# Altium integrated library TI Data Converters Analog to Digital Converter.IntLib: 2197 symbols (part 37 of 168)
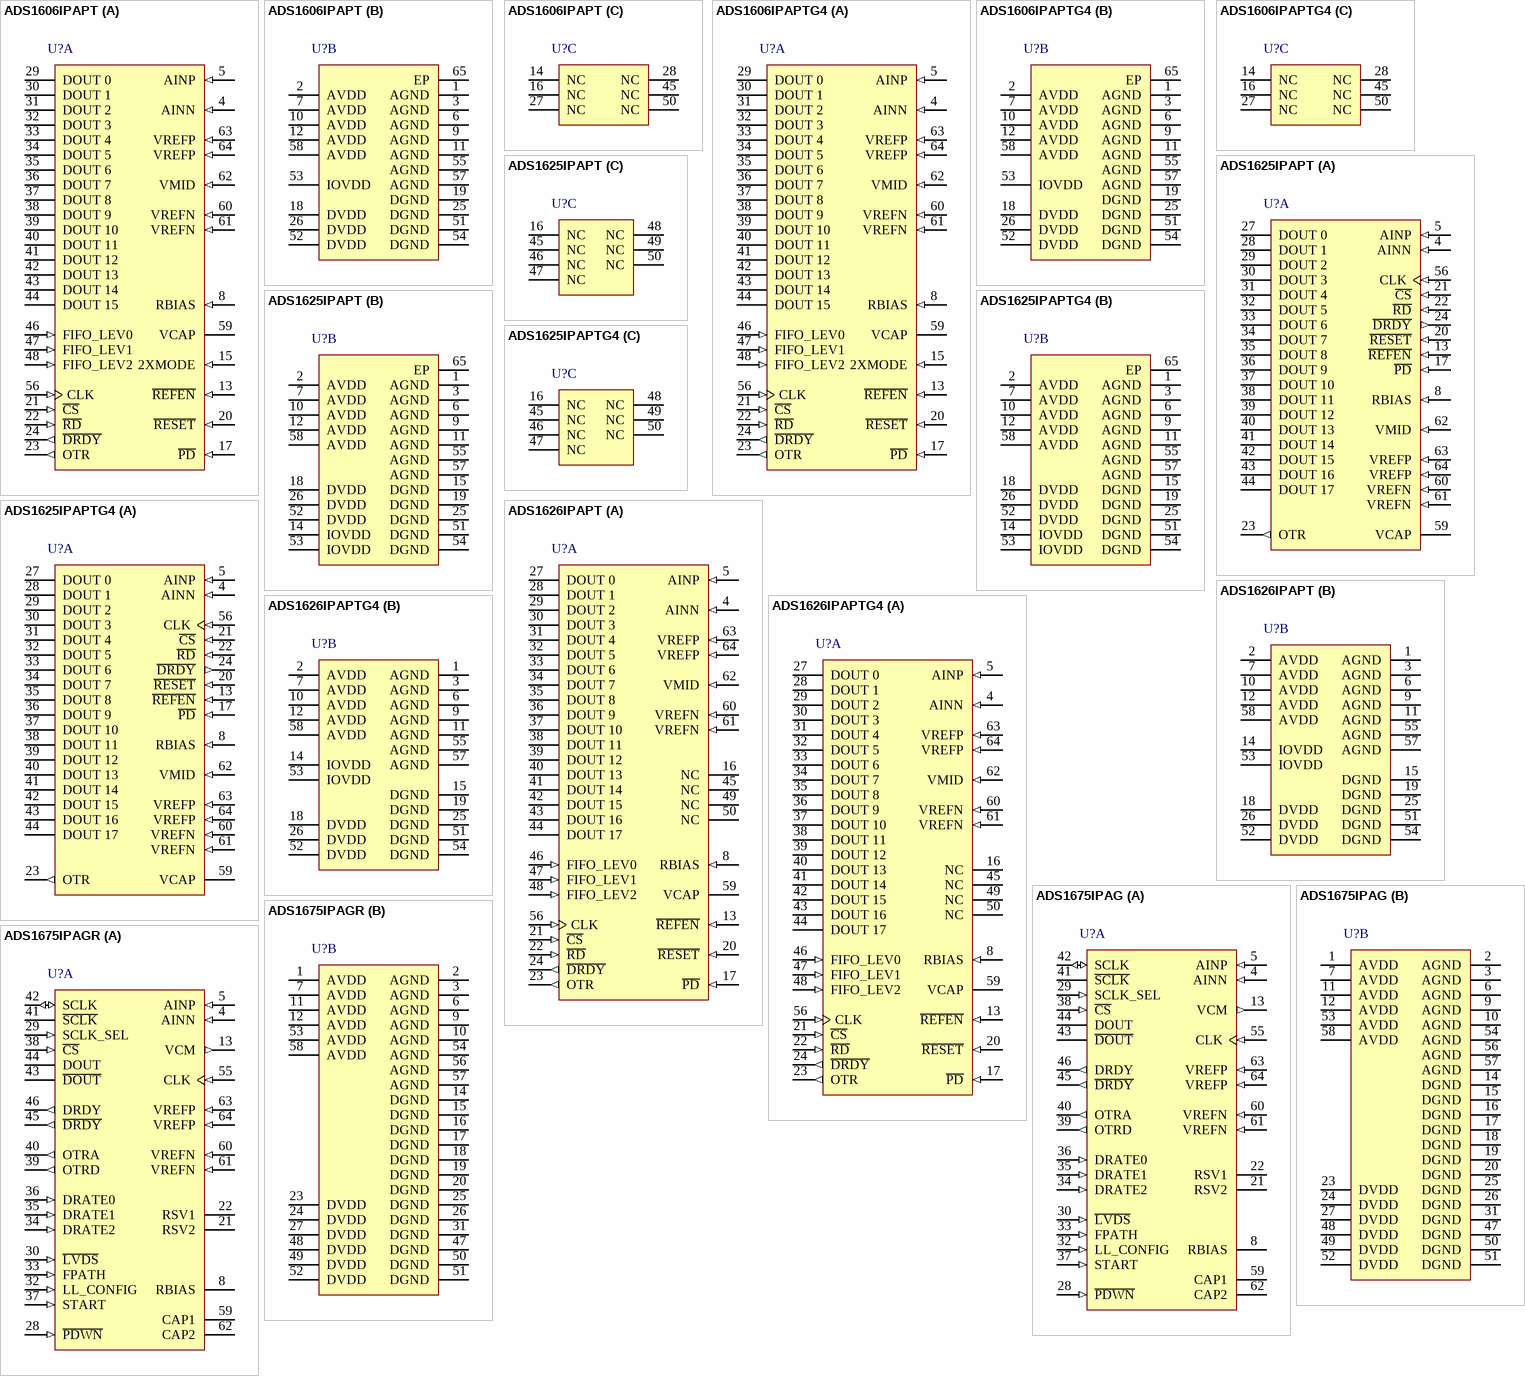
[diagram p162: symbols ADS1606IPAPT to ADS1675IPAGR]

## ADS1626IPAPT
designator U?
18-Bit, 1.25 MSPS Single Channel Delta-Sigma ADC with FIFO, -40 to 105 degC, 64-pin QFP (PAP64), Green (RoHS & no Sb/Br); Manufacturer: Texas Instruments; PartNumber: ADS1626IPAPT; # Input Channels: 1; Analog Voltage AV/DD(Max)(V): 5.25; Analog Voltage AV/DD(Min)(V): 4.75; Digital Supply(Min)(V): 2.7; INL(Max)(+/-LSB): 3.5; Interface: Parallel CMOS; Resolution(Bits): 18; Sample Rate (max)(SPS): 1.25M; SFDR(dB): 104; SINAD(dB): 92; SNR(dB): 93; SubFamily: Precision ADC (<=10MSPS); DatasheetVersion: SBAS280E; PackageVersion: 4147702/C, 08/2003; PackageReference: PAP64-5900X5900TP; PackageDescription: 64-Pin PowerPAD(TM) Plastic Quad Flatpack, Body 10 x 10 mm, Pitch 0.5 mm; Supplier 1: Digi-Key; Supplier Part Number 1: 296-34196-5-ND; Supplier 2: Mouser; Supplier Part Number 2: 595-THS1215CPW; Architecture: Delta-Sigma; Digital Supply(Max)(V): 5.25; Eco-Plan: Green (RoHS & no Sb/Br); Mounting Technology: Surface Mount; Code_JEDEC: MS-026; ComponentLink1Description: Manufacturer URL; ComponentLink1URL: http://www.ti.com/; ComponentLink2Description: Datasheet; ComponentLink2URL: http://www.ti.com/general/docs/lit/getliterature.tsp?genericPartNumber=ADS1626&fileType=pdf; ComponentLink3Description: Package Specification; ComponentLink3URL: http://www.ti.com/lit/ml/mpqf071b/mpqf071b.pdf
footprint TI-PAP64-5900X5900TP_N (QFP, 64-Leads, Body 10x10mm, Pitch 0.5mm, Thermal Pad 6.5x6.5mm, IPC Medium Density)
footprint TI-PAP64-5900X5900TP_L (QFP, 64-Leads, Body 10x10mm, Pitch 0.5mm, Thermal Pad 6.5x6.5mm, IPC High Density)
footprint TI-PAP64-5900X5900TP_M (QFP, 64-Leads, Body 10x10mm, Pitch 0.5mm, Thermal Pad 6.5x6.5mm, IPC Low Density)
part A pins: 4 AINN (in) "Negative analog input", 5 AINP (in) "Positive analog input", 8 RBIAS (in) "Terminal for external analog bias setting resistor", 13 ~{REFEN} (in) "Internal reference enable. Internal pull-down resistor of 170kohm to DGND.", 16 NC "Must be left unconnected", 17 ~{PD} (in) "Power down all circuitry. Internal pull-up resistor of 170kohm to DGND.", 20 ~{RESET} (in) "Reset digital filter", 21 ~{CS} (in) "Chip select", 22 ~{RD} (in) "Read enable", 23 OTR (out) "Active when analog inputs are out of range", 24 ~{DRDY} (out) "Data ready on falling edge", 27 DOUT 0 (hiz) "Data output. DOUT[17] is the MSB and DOUT[0] is the LSB.", 28 DOUT 1 (hiz) "Data output. DOUT[17] is the MSB and DOUT[0] is the LSB.", 29 DOUT 2 (hiz) "Data output. DOUT[17] is the MSB and DOUT[0] is the LSB.", 30 DOUT 3 (hiz) "Data output. DOUT[17] is the MSB and DOUT[0] is the LSB.", 31 DOUT 4 (hiz) "Data output. DOUT[17] is the MSB and DOUT[0] is the LSB.", 32 DOUT 5 (hiz) "Data output. DOUT[17] is the MSB and DOUT[0] is the LSB.", 33 DOUT 6 (hiz) "Data output. DOUT[17] is the MSB and DOUT[0] is the LSB.", 34 DOUT 7 (hiz) "Data output. DOUT[17] is the MSB and DOUT[0] is the LSB.", 35 DOUT 8 (hiz) "Data output. DOUT[17] is the MSB and DOUT[0] is the LSB.", 36 DOUT 9 (hiz) "Data output. DOUT[17] is the MSB and DOUT[0] is the LSB.", 37 DOUT 10 (hiz) "Data output. DOUT[17] is the MSB and DOUT[0] is the LSB.", 38 DOUT 11 (hiz) "Data output. DOUT[17] is the MSB and DOUT[0] is the LSB.", 39 DOUT 12 (hiz) "Data output. DOUT[17] is the MSB and DOUT[0] is the LSB.", 40 DOUT 13 (hiz) "Data output. DOUT[17] is the MSB and DOUT[0] is the LSB.", 41 DOUT 14 (hiz) "Data output. DOUT[17] is the MSB and DOUT[0] is the LSB.", 42 DOUT 15 (hiz) "Data output. DOUT[17] is the MSB and DOUT[0] is the LSB.", 43 DOUT 16 (hiz) "Data output. DOUT[17] is the MSB and DOUT[0] is the LSB.", 44 DOUT 17 (hiz) "Data output. DOUT[17] is the MSB and DOUT[0] is the LSB.", 45 NC "Must be left unconnected", 46 FIFO_LEV0 (in) "FIFO level (for the ADS1626 only). FIFO_LEV[2] is MSB.", 47 FIFO_LEV1 (in) "FIFO level (for the ADS1626 only). FIFO_LEV[2] is MSB.", 48 FIFO_LEV2 (in) "FIFO level (for the ADS1626 only). FIFO_LEV[2] is MSB.", 49 NC "Must be left unconnected", 50 NC "Must be left unconnected", 56 CLK (in) "Clock input", 59 VCAP "Terminal for external bypass capacitor connection to internal bias voltage", 60 VREFN (in) "Negative reference voltage", 61 VREFN (in) "Negative reference voltage", 62 VMID (in) "Midpoint voltage", 63 VREFP (in) "Positive reference voltage", 64 VREFP (in) "Positive reference voltage"
part B pins: 1 AGND (power) "Analog ground", 2 AVDD (power) "Analog supply", 3 AGND (power) "Analog ground", 6 AGND (power) "Analog ground", 7 AVDD (power) "Analog supply", 9 AGND (power) "Analog ground", 10 AVDD (power) "Analog supply", 11 AGND (power) "Analog ground", 12 AVDD (power) "Analog supply", 14 IOVDD (power) "Digital I/O supply", 15 DGND (power) "Digital ground", 18 DVDD (power) "Digital supply", 19 DGND (power) "Digital ground", 25 DGND (power) "Digital ground", 26 DVDD (power) "Digital supply", 51 DGND (power) "Digital ground", 52 DVDD (power) "Digital supply", 53 IOVDD (power) "Digital I/O supply", 54 DGND (power) "Digital ground", 55 AGND (power) "Analog ground", 57 AGND (power) "Analog ground", 58 AVDD (power) "Analog supply"

## ADS1626IPAPTG4
designator U?
18-Bit, 1.25 MSPS Single Channel Delta-Sigma ADC with FIFO, -40 to 105 degC, 64-pin QFP (PAP64), Green (RoHS & no Sb/Br); Manufacturer: Texas Instruments; PartNumber: ADS1626IPAPTG4; # Input Channels: 1; Analog Voltage AV/DD(Max)(V): 5.25; Analog Voltage AV/DD(Min)(V): 4.75; Digital Supply(Min)(V): 2.7; INL(Max)(+/-LSB): 3.5; Interface: Parallel CMOS; Resolution(Bits): 18; Sample Rate (max)(SPS): 1.25M; SFDR(dB): 104; SINAD(dB): 92; SNR(dB): 93; SubFamily: Precision ADC (<=10MSPS); DatasheetVersion: SBAS280E; PackageVersion: 4147702/C, 08/2003; PackageReference: PAP64-5900X5900TP; PackageDescription: 64-Pin PowerPAD(TM) Plastic Quad Flatpack, Body 10 x 10 mm, Pitch 0.5 mm; Supplier 1: Digi-Key; Supplier Part Number 1: THS1215CPWG4-ND; Supplier 2: Mouser; Supplier Part Number 2: 595-THS1215CPWG4; Architecture: Delta-Sigma; Digital Supply(Max)(V): 5.25; Eco-Plan: Green (RoHS & no Sb/Br); Mounting Technology: Surface Mount; Code_JEDEC: MS-026; ComponentLink1Description: Manufacturer URL; ComponentLink1URL: http://www.ti.com/; ComponentLink2Description: Datasheet; ComponentLink2URL: http://www.ti.com/general/docs/lit/getliterature.tsp?genericPartNumber=ADS1626&fileType=pdf; ComponentLink3Description: Package Specification; ComponentLink3URL: http://www.ti.com/lit/ml/mpqf071b/mpqf071b.pdf
footprint TI-PAP64-5900X5900TP_N (QFP, 64-Leads, Body 10x10mm, Pitch 0.5mm, Thermal Pad 6.5x6.5mm, IPC Medium Density)
footprint TI-PAP64-5900X5900TP_L (QFP, 64-Leads, Body 10x10mm, Pitch 0.5mm, Thermal Pad 6.5x6.5mm, IPC High Density)
footprint TI-PAP64-5900X5900TP_M (QFP, 64-Leads, Body 10x10mm, Pitch 0.5mm, Thermal Pad 6.5x6.5mm, IPC Low Density)
part A pins: 4 AINN (in) "Negative analog input", 5 AINP (in) "Positive analog input", 8 RBIAS (in) "Terminal for external analog bias setting resistor", 13 ~{REFEN} (in) "Internal reference enable. Internal pull-down resistor of 170kohm to DGND.", 16 NC "Must be left unconnected", 17 ~{PD} (in) "Power down all circuitry. Internal pull-up resistor of 170kohm to DGND.", 20 ~{RESET} (in) "Reset digital filter", 21 ~{CS} (in) "Chip select", 22 ~{RD} (in) "Read enable", 23 OTR (out) "Active when analog inputs are out of range", 24 ~{DRDY} (out) "Data ready on falling edge", 27 DOUT 0 (hiz) "Data output. DOUT[17] is the MSB and DOUT[0] is the LSB.", 28 DOUT 1 (hiz) "Data output. DOUT[17] is the MSB and DOUT[0] is the LSB.", 29 DOUT 2 (hiz) "Data output. DOUT[17] is the MSB and DOUT[0] is the LSB.", 30 DOUT 3 (hiz) "Data output. DOUT[17] is the MSB and DOUT[0] is the LSB.", 31 DOUT 4 (hiz) "Data output. DOUT[17] is the MSB and DOUT[0] is the LSB.", 32 DOUT 5 (hiz) "Data output. DOUT[17] is the MSB and DOUT[0] is the LSB.", 33 DOUT 6 (hiz) "Data output. DOUT[17] is the MSB and DOUT[0] is the LSB.", 34 DOUT 7 (hiz) "Data output. DOUT[17] is the MSB and DOUT[0] is the LSB.", 35 DOUT 8 (hiz) "Data output. DOUT[17] is the MSB and DOUT[0] is the LSB.", 36 DOUT 9 (hiz) "Data output. DOUT[17] is the MSB and DOUT[0] is the LSB.", 37 DOUT 10 (hiz) "Data output. DOUT[17] is the MSB and DOUT[0] is the LSB.", 38 DOUT 11 (hiz) "Data output. DOUT[17] is the MSB and DOUT[0] is the LSB.", 39 DOUT 12 (hiz) "Data output. DOUT[17] is the MSB and DOUT[0] is the LSB.", 40 DOUT 13 (hiz) "Data output. DOUT[17] is the MSB and DOUT[0] is the LSB.", 41 DOUT 14 (hiz) "Data output. DOUT[17] is the MSB and DOUT[0] is the LSB.", 42 DOUT 15 (hiz) "Data output. DOUT[17] is the MSB and DOUT[0] is the LSB.", 43 DOUT 16 (hiz) "Data output. DOUT[17] is the MSB and DOUT[0] is the LSB.", 44 DOUT 17 (hiz) "Data output. DOUT[17] is the MSB and DOUT[0] is the LSB.", 45 NC "Must be left unconnected", 46 FIFO_LEV0 (in) "FIFO level (for the ADS1626 only). FIFO_LEV[2] is MSB.", 47 FIFO_LEV1 (in) "FIFO level (for the ADS1626 only). FIFO_LEV[2] is MSB.", 48 FIFO_LEV2 (in) "FIFO level (for the ADS1626 only). FIFO_LEV[2] is MSB.", 49 NC "Must be left unconnected", 50 NC "Must be left unconnected", 56 CLK (in) "Clock input", 59 VCAP "Terminal for external bypass capacitor connection to internal bias voltage", 60 VREFN (in) "Negative reference voltage", 61 VREFN (in) "Negative reference voltage", 62 VMID (in) "Midpoint voltage", 63 VREFP (in) "Positive reference voltage", 64 VREFP (in) "Positive reference voltage"
part B pins: 1 AGND (power) "Analog ground", 2 AVDD (power) "Analog supply", 3 AGND (power) "Analog ground", 6 AGND (power) "Analog ground", 7 AVDD (power) "Analog supply", 9 AGND (power) "Analog ground", 10 AVDD (power) "Analog supply", 11 AGND (power) "Analog ground", 12 AVDD (power) "Analog supply", 14 IOVDD (power) "Digital I/O supply", 15 DGND (power) "Digital ground", 18 DVDD (power) "Digital supply", 19 DGND (power) "Digital ground", 25 DGND (power) "Digital ground", 26 DVDD (power) "Digital supply", 51 DGND (power) "Digital ground", 52 DVDD (power) "Digital supply", 53 IOVDD (power) "Digital I/O supply", 54 DGND (power) "Digital ground", 55 AGND (power) "Analog ground", 57 AGND (power) "Analog ground", 58 AVDD (power) "Analog supply"

## ADS1675IPAG
designator U?
4 MSPS, 24-Bit ADC, -40 to 85 degC, 64-pin QFP (PAG64), Green (RoHS & no Sb/Br); Manufacturer: Texas Instruments; PartNumber: ADS1675IPAG; # Input Channels: 1; Analog Voltage AV/DD(Max)(V): 5.25; Analog Voltage AV/DD(Min)(V): 4.75; Architecture: Delta-Sigma; Digital Supply(Max)(V): 3.15; Digital Supply(Min)(V): 2.85; Interface: Parallel LVDS, Serial SPI; Resolution(Bits): 24; Sample Rate (max)(SPS): 4M; SFDR(dB): 120; SNR(dB): 92; SubFamily: Precision ADC (<=10MSPS); DatasheetVersion: SBAS416D; PackageVersion: 4040282/C, 11/1996; PackageReference: PAG64; PackageDescription: 64-Pin Plastic Flat Pack, Body 10 x 10 mm, Pitch 0.50 mm; Supplier 1: Digi-Key; Supplier Part Number 1: 296-10011-5-ND; Supplier 2: Mouser; Supplier Part Number 2: 595-THS1215IPW; Eco-Plan: Green (RoHS & no Sb/Br); Mounting Technology: Surface Mount; Code_JEDEC: MS-026; ComponentLink1Description: Manufacturer URL; ComponentLink1URL: http://www.ti.com/; ComponentLink2Description: Datasheet; ComponentLink2URL: http://www.ti.com/general/docs/lit/getliterature.tsp?genericPartNumber=ADS1675&fileType=pdf; ComponentLink3Description: Package Specification; ComponentLink3URL: http://www.ti.com/lit/ml/mtqf006a/mtqf006a.pdf
footprint TI-PAG64_N (QFP, 64-Leads, Body 10x10mm, Pitch 0.5mm, IPC Medium Density)
footprint TI-PAG64_L (QFP, 64-Leads, Body 10x10mm, Pitch 0.5mm, IPC High Density)
footprint TI-PAG64_M (QFP, 64-Leads, Body 10x10mm, Pitch 0.5mm, IPC Low Density)
part A pins: 4 AINN (in) "Negative analog input", 5 AINP (in) "Positive analog input", 8 RBIAS "Analog bias setting resistor", 13 VCM (out) "Terminal for external bypass capacitor connection to internal common-mode voltage", 21 RSV2 "Short pin to digital ground", 22 RSV1 "Short pin to digital supply", 28 ~{PDWN} (in) "Power-down control, active low", 29 SCLK_SEL (in) "Shift-clock source select. If SCLK_SEL = '0', then SCLK is internally generated. If SCLK_SEL = '1', then SCLK must be externally generated.", 30 ~{LVDS} (in) "Serial interface select. If L\V\D\S\ = '0', then interface is LVDS-compatible. If L\V\D\S\ = '1', then interface is CMOS-compatible.", 32 LL_CONFIG (in) "Configure Low-Latency digital filter. If LL_CONFIG = '0', then single-cycle settling is selected. If LL_CONFIG = '1', then fast-response is selected.", 33 FPATH (in) "Digital filter path selection. If FPATH = '0', then path is Wide Bandwidth. If FPATH = '1', then path is Low-Latency.", 34 DRATE2 (in) "Data rate selection", 35 DRATE1 (in) "Data rate selection", 36 DRATE0 (in) "Data rate selection", 37 START (in) "Start convert, reset, and synchronization control input", 38 ~{CS} (in) "Chip select; active low", 39 OTRD (out) "Digital filter out-of-range indicator", 40 OTRA (out) "Analog input out-of-range indicator", 41 ~{SCLK} (hiz) "Negative shift clock output. If SCLK_SEL = '0', then S\C\L\K\ is the complementary shift clock output. If SCLK_SEL = '1', then S\C\L\K\ always output is 3-state.", 42 SCLK (io) "Positive shift clock output. If SCLK_SEL = '0', then SCLK is an output. If SCLK_SEL = '1', then SCLK is an input.", 43 ~{DOUT} (hiz) "Negative LVDS serial data output", 44 DOUT (hiz) "Positive LVDS serial data output", 45 ~{DRDY} (out) "Negative data ready output", 46 DRDY (out) "Positive data ready output", 55 CLK (in) "Master clock input", 59 CAP1 "Terminal for 1uF external bypass capacitor", 60 VREFN (in) "Negative reference voltage. Short to analog ground", 61 VREFN (in) "Negative reference voltage. Short to analog ground", 62 CAP2 "Terminal for 1uF external bypass capacitor", 63 VREFP (in) "Positive reference voltage", 64 VREFP (in) "Positive reference voltage"
part B pins: 1 AVDD (power) "Analog supply", 2 AGND (power) "Analog ground", 3 AGND (power) "Analog ground", 6 AGND (power) "Analog ground", 7 AVDD (power) "Analog supply", 9 AGND (power) "Analog ground", 10 AGND (power) "Analog ground", 11 AVDD (power) "Analog supply", 12 AVDD (power) "Analog supply", 14 DGND (power) "Digital ground", 15 DGND (power) "Digital ground", 16 DGND (power) "Digital ground", 17 DGND (power) "Digital ground", 18 DGND (power) "Digital ground", 19 DGND (power) "Digital ground", 20 DGND (power) "Digital ground", 23 DVDD (power) "Digital supply", 24 DVDD (power) "Digital supply", 25 DGND (power) "Digital ground", 26 DGND (power) "Digital ground", 27 DVDD (power) "Digital supply", 31 DGND (power) "Digital ground", 47 DGND (power) "Digital ground", 48 DVDD (power) "Digital supply", 49 DVDD (power) "Digital supply", 50 DGND (power) "Digital ground", 51 DGND (power) "Digital ground", 52 DVDD (power) "Digital supply", 53 AVDD (power) "Analog supply", 54 AGND (power) "Analog ground", 56 AGND (power) "Analog ground", 57 AGND (power) "Analog ground", 58 AVDD (power) "Analog supply"

## ADS1675IPAGR
designator U?
4 MSPS, 24-Bit ADC, -40 to 85 degC, 64-pin QFP (PAG64), Green (RoHS & no Sb/Br); Manufacturer: Texas Instruments; PartNumber: ADS1675IPAGR; # Input Channels: 1; Analog Voltage AV/DD(Max)(V): 5.25; Analog Voltage AV/DD(Min)(V): 4.75; Architecture: Delta-Sigma; Digital Supply(Max)(V): 3.15; Digital Supply(Min)(V): 2.85; Interface: Parallel LVDS, Serial SPI; Resolution(Bits): 24; Sample Rate (max)(SPS): 4M; SFDR(dB): 120; SNR(dB): 92; SubFamily: Precision ADC (<=10MSPS); DatasheetVersion: SBAS416D; PackageVersion: 4040282/C, 11/1996; PackageReference: PAG64; PackageDescription: 64-Pin Plastic Flat Pack, Body 10 x 10 mm, Pitch 0.50 mm; Supplier 1: Digi-Key; Supplier Part Number 1: THS1215IPWG4-ND; Supplier 2: Mouser; Supplier Part Number 2: 595-THS1215IPWG4; Eco-Plan: Green (RoHS & no Sb/Br); Mounting Technology: Surface Mount; Code_JEDEC: MS-026; ComponentLink1Description: Manufacturer URL; ComponentLink1URL: http://www.ti.com/; ComponentLink2Description: Datasheet; ComponentLink2URL: http://www.ti.com/general/docs/lit/getliterature.tsp?genericPartNumber=ADS1675&fileType=pdf; ComponentLink3Description: Package Specification; ComponentLink3URL: http://www.ti.com/lit/ml/mtqf006a/mtqf006a.pdf
footprint TI-PAG64_N (QFP, 64-Leads, Body 10x10mm, Pitch 0.5mm, IPC Medium Density)
footprint TI-PAG64_L (QFP, 64-Leads, Body 10x10mm, Pitch 0.5mm, IPC High Density)
footprint TI-PAG64_M (QFP, 64-Leads, Body 10x10mm, Pitch 0.5mm, IPC Low Density)
part A pins: 4 AINN (in) "Negative analog input", 5 AINP (in) "Positive analog input", 8 RBIAS "Analog bias setting resistor", 13 VCM (out) "Terminal for external bypass capacitor connection to internal common-mode voltage", 21 RSV2 "Short pin to digital ground", 22 RSV1 "Short pin to digital supply", 28 ~{PDWN} (in) "Power-down control, active low", 29 SCLK_SEL (in) "Shift-clock source select. If SCLK_SEL = '0', then SCLK is internally generated. If SCLK_SEL = '1', then SCLK must be externally generated.", 30 ~{LVDS} (in) "Serial interface select. If L\V\D\S\ = '0', then interface is LVDS-compatible. If L\V\D\S\ = '1', then interface is CMOS-compatible.", 32 LL_CONFIG (in) "Configure Low-Latency digital filter. If LL_CONFIG = '0', then single-cycle settling is selected. If LL_CONFIG = '1', then fast-response is selected.", 33 FPATH (in) "Digital filter path selection. If FPATH = '0', then path is Wide Bandwidth. If FPATH = '1', then path is Low-Latency.", 34 DRATE2 (in) "Data rate selection", 35 DRATE1 (in) "Data rate selection", 36 DRATE0 (in) "Data rate selection", 37 START (in) "Start convert, reset, and synchronization control input", 38 ~{CS} (in) "Chip select; active low", 39 OTRD (out) "Digital filter out-of-range indicator", 40 OTRA (out) "Analog input out-of-range indicator", 41 ~{SCLK} (hiz) "Negative shift clock output. If SCLK_SEL = '0', then S\C\L\K\ is the complementary shift clock output. If SCLK_SEL = '1', then S\C\L\K\ always output is 3-state.", 42 SCLK (io) "Positive shift clock output. If SCLK_SEL = '0', then SCLK is an output. If SCLK_SEL = '1', then SCLK is an input.", 43 ~{DOUT} (hiz) "Negative LVDS serial data output", 44 DOUT (hiz) "Positive LVDS serial data output", 45 ~{DRDY} (out) "Negative data ready output", 46 DRDY (out) "Positive data ready output", 55 CLK (in) "Master clock input", 59 CAP1 "Terminal for 1uF external bypass capacitor", 60 VREFN (in) "Negative reference voltage. Short to analog ground", 61 VREFN (in) "Negative reference voltage. Short to analog ground", 62 CAP2 "Terminal for 1uF external bypass capacitor", 63 VREFP (in) "Positive reference voltage", 64 VREFP (in) "Positive reference voltage"
part B pins: 1 AVDD (power) "Analog supply", 2 AGND (power) "Analog ground", 3 AGND (power) "Analog ground", 6 AGND (power) "Analog ground", 7 AVDD (power) "Analog supply", 9 AGND (power) "Analog ground", 10 AGND (power) "Analog ground", 11 AVDD (power) "Analog supply", 12 AVDD (power) "Analog supply", 14 DGND (power) "Digital ground", 15 DGND (power) "Digital ground", 16 DGND (power) "Digital ground", 17 DGND (power) "Digital ground", 18 DGND (power) "Digital ground", 19 DGND (power) "Digital ground", 20 DGND (power) "Digital ground", 23 DVDD (power) "Digital supply", 24 DVDD (power) "Digital supply", 25 DGND (power) "Digital ground", 26 DGND (power) "Digital ground", 27 DVDD (power) "Digital supply", 31 DGND (power) "Digital ground", 47 DGND (power) "Digital ground", 48 DVDD (power) "Digital supply", 49 DVDD (power) "Digital supply", 50 DGND (power) "Digital ground", 51 DGND (power) "Digital ground", 52 DVDD (power) "Digital supply", 53 AVDD (power) "Analog supply", 54 AGND (power) "Analog ground", 56 AGND (power) "Analog ground", 57 AGND (power) "Analog ground", 58 AVDD (power) "Analog supply"

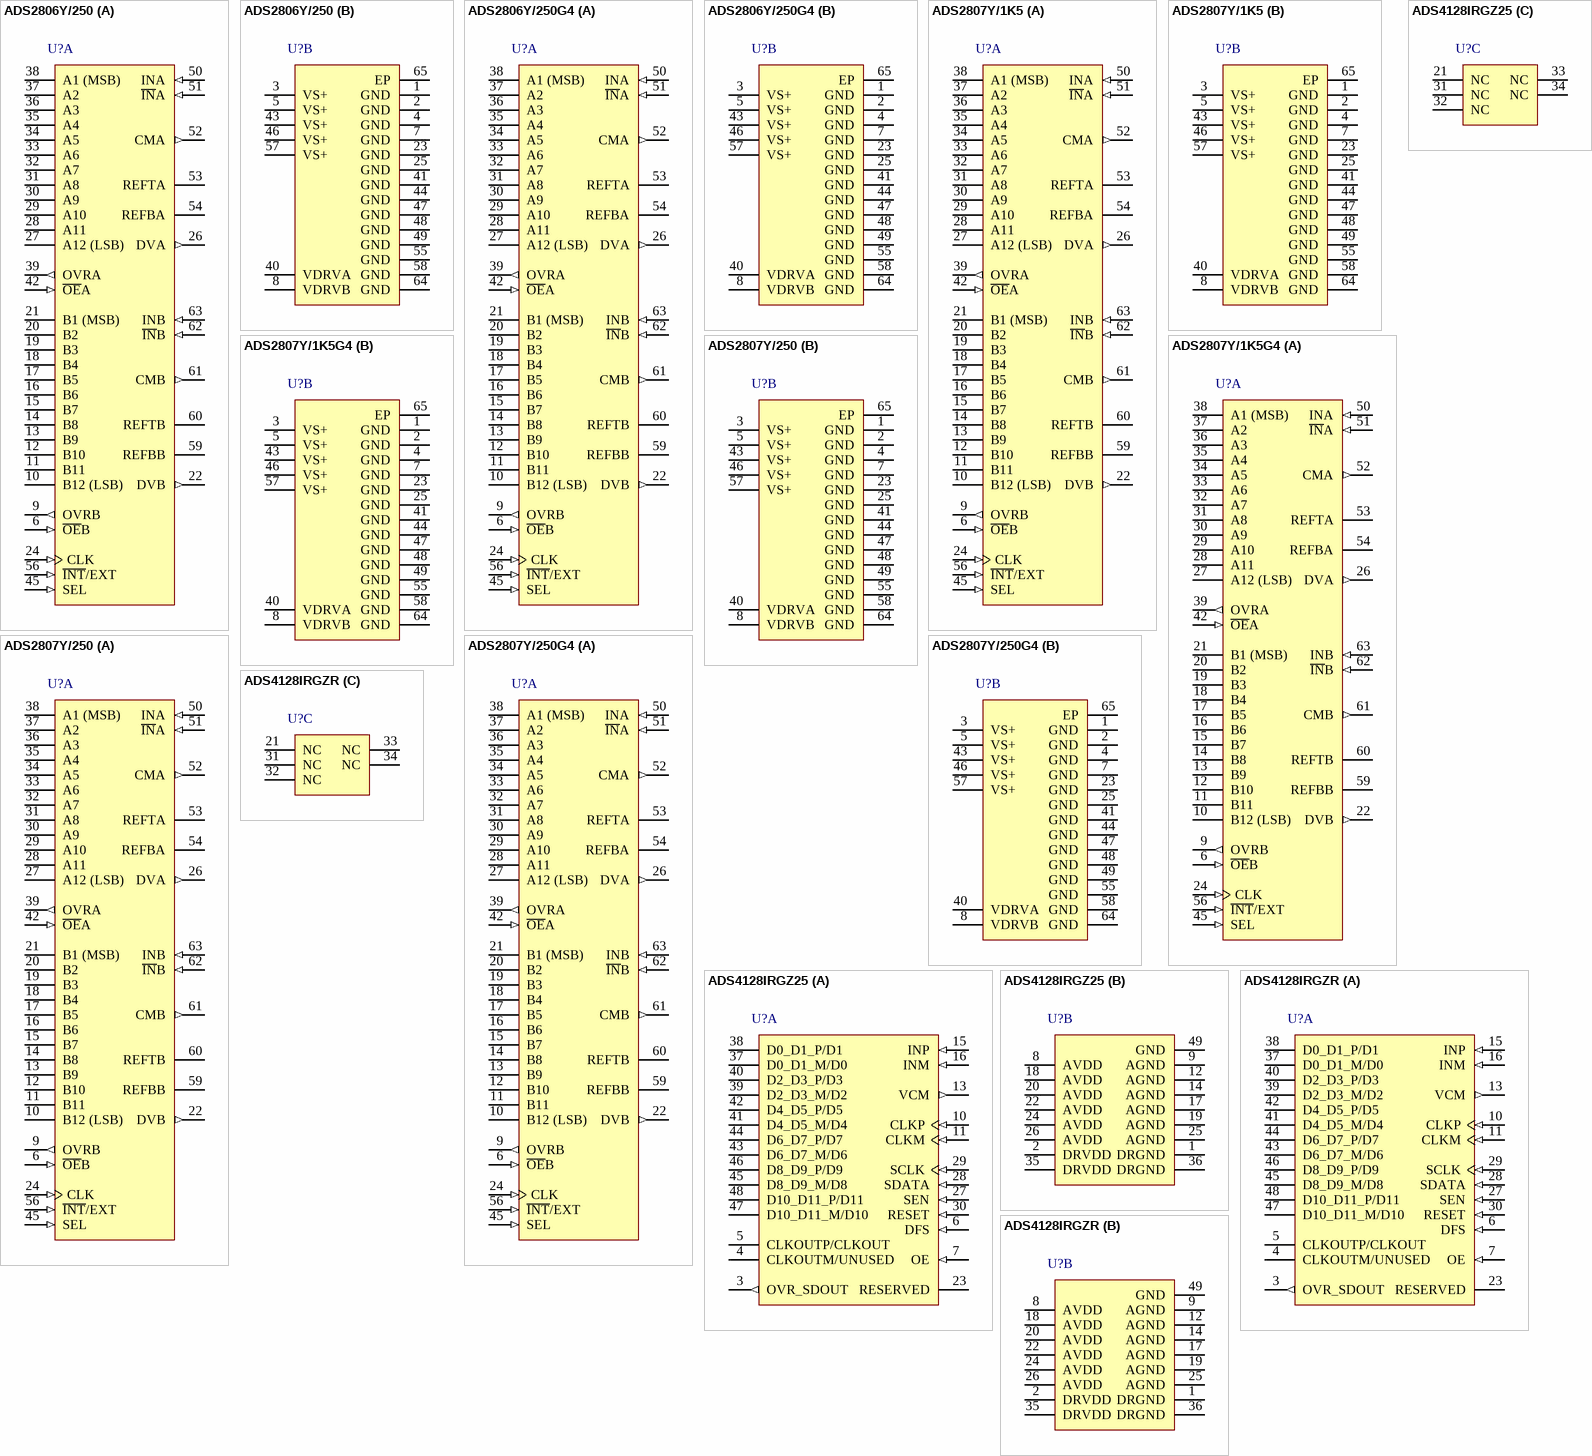
[diagram p31: symbols ADS2806Y/250 to ADS4128IRGZR]

## ADS2806Y/250
designator U?
12-Bit, 32 MSPS Dual ADC, Int / Ext Reference, Program Input Range with Out of Range Flag, -40 to 85 degC, 64-pin QFP (PAP64), Green (RoHS & no Sb/Br); Manufacturer: Texas Instruments; PartNumber: ADS2806Y/250; # Input Channels: 2; Analog Voltage AV/DD(Max)(V): 5.25; Analog Voltage AV/DD(Min)(V): 4.75; Architecture: Pipeline; Digital Supply(Max)(V): 5; Digital Supply(Min)(V): 3; ENOB(Bits): 10.7; INL(Max)(+/-LSB): 4; Interface: Parallel CMOS; Resolution(Bits): 12; Sample Rate (max)(SPS): 32M; SFDR(dB): 73; SINAD(dB): 69; SNR(dB): 66; SubFamily: High Speed ADC (>10MSPS); DatasheetVersion: SBAS178B; PackageVersion: 4147702/C, 08/2003; PackageReference: PAP64-5900X5900TP; PackageDescription: 64-Pin PowerPAD(TM) Plastic Quad Flatpack, Body 10 x 10 mm, Pitch 0.5 mm; Supplier 1: Digi-Key; Supplier Part Number 1: 296-2838-5-ND; Supplier 2: Mouser; Supplier Part Number 2: 595-THS1230IPW; Eco-Plan: Green (RoHS & no Sb/Br); Mounting Technology: Surface Mount; Code_JEDEC: MS-026; ComponentLink1Description: Manufacturer URL; ComponentLink1URL: http://www.ti.com/; ComponentLink2Description: Datasheet; ComponentLink2URL: http://www.ti.com/general/docs/lit/getliterature.tsp?genericPartNumber=ADS2806&fileType=pdf; ComponentLink3Description: Package Specification; ComponentLink3URL: http://www.ti.com/lit/ml/mpqf071b/mpqf071b.pdf
footprint TI-PAP64-5900X5900TP_N (QFP, 64-Leads, Body 10x10mm, Pitch 0.5mm, Thermal Pad 6.5x6.5mm, IPC Medium Density)
footprint TI-PAP64-5900X5900TP_L (QFP, 64-Leads, Body 10x10mm, Pitch 0.5mm, Thermal Pad 6.5x6.5mm, IPC High Density)
footprint TI-PAP64-5900X5900TP_M (QFP, 64-Leads, Body 10x10mm, Pitch 0.5mm, Thermal Pad 6.5x6.5mm, IPC Low Density)
part A pins: 6 ~{OE}B (in) "Output Enable, Channel B", 9 OVRB (out) "Over-Range Indicator, Channel B", 10 B12 (LSB) (hiz) "Data Bit 12 (D0), Channel B", 11 B11 (hiz) "Data Bit 11 (D1), Channel B", 12 B10 (hiz) "Data Bit 10 (D2), Channel B", 13 B9 (hiz) "Data Bit 9 (D3), Channel B", 14 B8 (hiz) "Data Bit 8 (D4), Channel B", 15 B7 (hiz) "Data Bit 7 (D5), Channel B", 16 B6 (hiz) "Data Bit 6 (D6), Channel B", 17 B5 (hiz) "Data Bit 5 (D7), Channel B", 18 B4 (hiz) "Data Bit 4 (D8), Channel B", 19 B3 (hiz) "Data Bit 3 (D9), Channel B", 20 B2 (hiz) "Data Bit 2 (D10), Channel B", 21 B1 (MSB) (hiz) "Data Bit 1 (D11), Channel B", 22 DVB (out) "Data Valid, Channel B", 24 CLK (in) "Clock", 26 DVA (out) "Data Valid, Channel A", 27 A12 (LSB) (hiz) "Data Bit 12 (D0), Channel A", 28 A11 (hiz) "Data Bit 11 (D1), Channel A", 29 A10 (hiz) "Data Bit 10 (D2), Channel A", 30 A9 (hiz) "Data Bit 9 (D3), Channel A", 31 A8 (hiz) "Data Bit 8 (D4), Channel A", 32 A7 (hiz) "Data Bit 7 (D5), Channel A", 33 A6 (hiz) "Data Bit 6 (D6), Channel A", 34 A5 (hiz) "Data Bit 5 (D7), Channel A", 35 A4 (hiz) "Data Bit 4 (D8), Channel A", 36 A3 (hiz) "Data Bit 3 (D9), Channel A", 37 A2 (hiz) "Data Bit 2 (D10), Channel A", 38 A1 (MSB) (hiz) "Data Bit 1 (D11), Channel A", 39 OVRA (out) "Over-Range Indicator, Channel A", 42 ~{OE}A (in) "Output Enable, Channel A", 45 SEL (in) "Input Range Select: HIGH = 3V, LOW = 2V", 50 INA (in) "Analog Input, Channel A", 51 ~{IN}A (in) "Complementary Analog Input, Channel A", 52 CMA (out) "Common-Mode, Channel A", 53 REFTA "Top Reference/Bypass, Channel A", 54 REFBA "Bottom Reference/Bypass, Channel A", 56 ~{INT}/EXT (in) "Reference Select: HIGH = External,LOW = Internal 50kO Pull-Up Resistor", 59 REFBB "Bottom Reference/Bypass, Channel B", 60 REFTB "Top Reference/Bypass, Channel B", 61 CMB (out) "Common-Mode, Channel B", 62 ~{IN}B (in) "Complementary Analog Input, Channel B", 63 INB (in) "Analog Input, Channel B"
part B pins: 1 GND (power) "Ground", 2 GND (power) "Ground", 3 VS+ (power) "+5V Supply", 4 GND (power) "Ground", 5 VS+ (power) "+5V Supply", 7 GND (power), 8 VDRVB (power) "Logic Driver Supply Voltage, Channel B", 23 GND (power) "Ground", 25 GND (power) "Ground", 40 VDRVA (power) "Logic Driver Supply Voltage, Channel A", 41 GND (power) "Ground", 43 VS+ (power) "+5V Supply", 44 GND (power) "Ground", 46 VS+ (power) "+5V Supply", 47 GND (power) "Ground", 48 GND (power) "Ground", 49 GND (power) "Ground", 55 GND (power) "Ground", 57 VS+ (power) "+5V Supply", 58 GND (power) "Ground", 64 GND (power) "Ground", 65 EP

## ADS2806Y/250G4
designator U?
12-Bit, 32 MSPS Dual ADC, Int / Ext Reference, Program Input Range with Out of Range Flag, -40 to 85 degC, 64-pin QFP (PAP64), Green (RoHS & no Sb/Br); Manufacturer: Texas Instruments; PartNumber: ADS2806Y/250G4; # Input Channels: 2; Analog Voltage AV/DD(Max)(V): 5.25; Analog Voltage AV/DD(Min)(V): 4.75; Architecture: Pipeline; Digital Supply(Max)(V): 5; Digital Supply(Min)(V): 3; ENOB(Bits): 10.7; INL(Max)(+/-LSB): 4; Interface: Parallel CMOS; Resolution(Bits): 12; Sample Rate (max)(SPS): 32M; SFDR(dB): 73; SINAD(dB): 69; SNR(dB): 66; SubFamily: High Speed ADC (>10MSPS); DatasheetVersion: SBAS178B; PackageVersion: 4147702/C, 08/2003; PackageReference: PAP64-5900X5900TP; PackageDescription: 64-Pin PowerPAD(TM) Plastic Quad Flatpack, Body 10 x 10 mm, Pitch 0.5 mm; Supplier 1: Digi-Key; Supplier Part Number 1: THS1230IPWG4-ND; Supplier 2: Mouser; Supplier Part Number 2: 595-THS1230IPWG4; Eco-Plan: Green (RoHS & no Sb/Br); Mounting Technology: Surface Mount; Code_JEDEC: MS-026; ComponentLink1Description: Manufacturer URL; ComponentLink1URL: http://www.ti.com/; ComponentLink2Description: Datasheet; ComponentLink2URL: http://www.ti.com/general/docs/lit/getliterature.tsp?genericPartNumber=ADS2806&fileType=pdf; ComponentLink3Description: Package Specification; ComponentLink3URL: http://www.ti.com/lit/ml/mpqf071b/mpqf071b.pdf
footprint TI-PAP64-5900X5900TP_N (QFP, 64-Leads, Body 10x10mm, Pitch 0.5mm, Thermal Pad 6.5x6.5mm, IPC Medium Density)
footprint TI-PAP64-5900X5900TP_L (QFP, 64-Leads, Body 10x10mm, Pitch 0.5mm, Thermal Pad 6.5x6.5mm, IPC High Density)
footprint TI-PAP64-5900X5900TP_M (QFP, 64-Leads, Body 10x10mm, Pitch 0.5mm, Thermal Pad 6.5x6.5mm, IPC Low Density)
part A pins: 6 ~{OE}B (in) "Output Enable, Channel B", 9 OVRB (out) "Over-Range Indicator, Channel B", 10 B12 (LSB) (hiz) "Data Bit 12 (D0), Channel B", 11 B11 (hiz) "Data Bit 11 (D1), Channel B", 12 B10 (hiz) "Data Bit 10 (D2), Channel B", 13 B9 (hiz) "Data Bit 9 (D3), Channel B", 14 B8 (hiz) "Data Bit 8 (D4), Channel B", 15 B7 (hiz) "Data Bit 7 (D5), Channel B", 16 B6 (hiz) "Data Bit 6 (D6), Channel B", 17 B5 (hiz) "Data Bit 5 (D7), Channel B", 18 B4 (hiz) "Data Bit 4 (D8), Channel B", 19 B3 (hiz) "Data Bit 3 (D9), Channel B", 20 B2 (hiz) "Data Bit 2 (D10), Channel B", 21 B1 (MSB) (hiz) "Data Bit 1 (D11), Channel B", 22 DVB (out) "Data Valid, Channel B", 24 CLK (in) "Clock", 26 DVA (out) "Data Valid, Channel A", 27 A12 (LSB) (hiz) "Data Bit 12 (D0), Channel A", 28 A11 (hiz) "Data Bit 11 (D1), Channel A", 29 A10 (hiz) "Data Bit 10 (D2), Channel A", 30 A9 (hiz) "Data Bit 9 (D3), Channel A", 31 A8 (hiz) "Data Bit 8 (D4), Channel A", 32 A7 (hiz) "Data Bit 7 (D5), Channel A", 33 A6 (hiz) "Data Bit 6 (D6), Channel A", 34 A5 (hiz) "Data Bit 5 (D7), Channel A", 35 A4 (hiz) "Data Bit 4 (D8), Channel A", 36 A3 (hiz) "Data Bit 3 (D9), Channel A", 37 A2 (hiz) "Data Bit 2 (D10), Channel A", 38 A1 (MSB) (hiz) "Data Bit 1 (D11), Channel A", 39 OVRA (out) "Over-Range Indicator, Channel A", 42 ~{OE}A (in) "Output Enable, Channel A", 45 SEL (in) "Input Range Select: HIGH = 3V, LOW = 2V", 50 INA (in) "Analog Input, Channel A", 51 ~{IN}A (in) "Complementary Analog Input, Channel A", 52 CMA (out) "Common-Mode, Channel A", 53 REFTA "Top Reference/Bypass, Channel A", 54 REFBA "Bottom Reference/Bypass, Channel A", 56 ~{INT}/EXT (in) "Reference Select: HIGH = External,LOW = Internal 50kO Pull-Up Resistor", 59 REFBB "Bottom Reference/Bypass, Channel B", 60 REFTB "Top Reference/Bypass, Channel B", 61 CMB (out) "Common-Mode, Channel B", 62 ~{IN}B (in) "Complementary Analog Input, Channel B", 63 INB (in) "Analog Input, Channel B"
part B pins: 1 GND (power) "Ground", 2 GND (power) "Ground", 3 VS+ (power) "+5V Supply", 4 GND (power) "Ground", 5 VS+ (power) "+5V Supply", 7 GND (power), 8 VDRVB (power) "Logic Driver Supply Voltage, Channel B", 23 GND (power) "Ground", 25 GND (power) "Ground", 40 VDRVA (power) "Logic Driver Supply Voltage, Channel A", 41 GND (power) "Ground", 43 VS+ (power) "+5V Supply", 44 GND (power) "Ground", 46 VS+ (power) "+5V Supply", 47 GND (power) "Ground", 48 GND (power) "Ground", 49 GND (power) "Ground", 55 GND (power) "Ground", 57 VS+ (power) "+5V Supply", 58 GND (power) "Ground", 64 GND (power) "Ground", 65 EP

## ADS2807Y/1K5
designator U?
12-Bit, 50 MSPS Dual ADC, Int / Ext Reference, Program Input Range with Out of Range Flag, -40 to 85 degC, 64-pin QFP (PAP64), Green (RoHS & no Sb/Br); Manufacturer: Texas Instruments; PartNumber: ADS2807Y/1K5; # Input Channels: 2; Analog Voltage AV/DD(Max)(V): 5.25; Analog Voltage AV/DD(Min)(V): 4.75; Architecture: Pipeline; Digital Supply(Max)(V): 5; Digital Supply(Min)(V): 3; Interface: Parallel CMOS; Resolution(Bits): 12; Sample Rate (max)(SPS): 50M; SFDR(dB): 70; SINAD(dB): 64; SNR(dB): 65; SubFamily: High Speed ADC (>10MSPS); DatasheetVersion: SBAS169B; PackageVersion: 4147702/C, 08/2003; PackageReference: PAP64-5900X5900TP; PackageDescription: 64-Pin PowerPAD(TM) Plastic Quad Flatpack, Body 10 x 10 mm, Pitch 0.5 mm; Supplier 1: Digi-Key; Supplier Part Number 1: 296-25299-5-ND; Supplier 2: Mouser; Supplier Part Number 2: 595-THS1030CPW; Eco-Plan: Green (RoHS & no Sb/Br); INL(Max)(+/-LSB): 5; Mounting Technology: Surface Mount; Code_JEDEC: MS-026; ComponentLink1Description: Manufacturer URL; ComponentLink1URL: http://www.ti.com/; ComponentLink2Description: Datasheet; ComponentLink2URL: http://www.ti.com/general/docs/lit/getliterature.tsp?genericPartNumber=ADS2807&fileType=pdf; ComponentLink3Description: Package Specification; ComponentLink3URL: http://www.ti.com/lit/ml/mpqf071b/mpqf071b.pdf
footprint TI-PAP64-5900X5900TP_N (QFP, 64-Leads, Body 10x10mm, Pitch 0.5mm, Thermal Pad 6.5x6.5mm, IPC Medium Density)
footprint TI-PAP64-5900X5900TP_L (QFP, 64-Leads, Body 10x10mm, Pitch 0.5mm, Thermal Pad 6.5x6.5mm, IPC High Density)
footprint TI-PAP64-5900X5900TP_M (QFP, 64-Leads, Body 10x10mm, Pitch 0.5mm, Thermal Pad 6.5x6.5mm, IPC Low Density)
part A pins: 6 ~{OE}B (in) "Output Enable, Channel B", 9 OVRB (out) "Over-Range Indicator, Channel B", 10 B12 (LSB) (hiz) "Data Bit 12 (D0), Channel B", 11 B11 (hiz) "Data Bit 11 (D1), Channel B", 12 B10 (hiz) "Data Bit 10 (D2), Channel B", 13 B9 (hiz) "Data Bit 9 (D3), Channel B", 14 B8 (hiz) "Data Bit 8 (D4), Channel B", 15 B7 (hiz) "Data Bit 7 (D5), Channel B", 16 B6 (hiz) "Data Bit 6 (D6), Channel B", 17 B5 (hiz) "Data Bit 5 (D7), Channel B", 18 B4 (hiz) "Data Bit 4 (D8), Channel B", 19 B3 (hiz) "Data Bit 3 (D9), Channel B", 20 B2 (hiz) "Data Bit 2 (D10), Channel B", 21 B1 (MSB) (hiz) "Data Bit 1 (D11), Channel B", 22 DVB (out) "Data Valid, Channel B", 24 CLK (in) "Clock", 26 DVA (out) "Data Valid, Channel A", 27 A12 (LSB) (hiz) "Data Bit 12 (D0), Channel A", 28 A11 (hiz) "Data Bit 11 (D1), Channel A", 29 A10 (hiz) "Data Bit 10 (D2), Channel A", 30 A9 (hiz) "Data Bit 9 (D3), Channel A", 31 A8 (hiz) "Data Bit 8 (D4), Channel A", 32 A7 (hiz) "Data Bit 7 (D5), Channel A", 33 A6 (hiz) "Data Bit 6 (D6), Channel A", 34 A5 (hiz) "Data Bit 5 (D7), Channel A", 35 A4 (hiz) "Data Bit 4 (D8), Channel A", 36 A3 (hiz) "Data Bit 3 (D9), Channel A", 37 A2 (hiz) "Data Bit 2 (D10), Channel A", 38 A1 (MSB) (hiz) "Data Bit 1 (D11), Channel A", 39 OVRA (out) "Over-Range Indicator, Channel A", 42 ~{OE}A (in) "Output Enable, Channel A", 45 SEL (in) "Input Range Select: HIGH = 3V, LOW = 2V", 50 INA (in) "Analog Input, Channel A", 51 ~{IN}A (in) "Complementary Analog Input, Channel A", 52 CMA (out) "Common-Mode, Channel A", 53 REFTA "Top Reference/Bypass, Channel A", 54 REFBA "Bottom Reference/Bypass, Channel A", 56 ~{INT}/EXT (in) "Reference Select: HIGH = External,LOW = Internal 50kO Pull-Up Resistor", 59 REFBB "Bottom Reference/Bypass, Channel B", 60 REFTB "Top Reference/Bypass, Channel B", 61 CMB (out) "Common-Mode, Channel B", 62 ~{IN}B (in) "Complementary Analog Input, Channel B", 63 INB (in) "Analog Input, Channel B"
part B pins: 1 GND (power) "Ground", 2 GND (power) "Ground", 3 VS+ (power) "+5V Supply", 4 GND (power) "Ground", 5 VS+ (power) "+5V Supply", 7 GND (power), 8 VDRVB (power) "Logic Driver Supply Voltage, Channel B", 23 GND (power) "Ground", 25 GND (power) "Ground", 40 VDRVA (power) "Logic Driver Supply Voltage, Channel A", 41 GND (power) "Ground", 43 VS+ (power) "+5V Supply", 44 GND (power) "Ground", 46 VS+ (power) "+5V Supply", 47 GND (power) "Ground", 48 GND (power) "Ground", 49 GND (power) "Ground", 55 GND (power) "Ground", 57 VS+ (power) "+5V Supply", 58 GND (power) "Ground", 64 GND (power) "Ground", 65 EP

## ADS2807Y/1K5G4
designator U?
12-Bit, 50 MSPS Dual ADC, Int / Ext Reference, Program Input Range with Out of Range Flag, -40 to 85 degC, 64-pin QFP (PAP64), Green (RoHS & no Sb/Br); Manufacturer: Texas Instruments; PartNumber: ADS2807Y/1K5G4; # Input Channels: 2; Analog Voltage AV/DD(Max)(V): 5.25; Analog Voltage AV/DD(Min)(V): 4.75; Architecture: Pipeline; Digital Supply(Max)(V): 5; Digital Supply(Min)(V): 3; Interface: Parallel CMOS; Resolution(Bits): 12; Sample Rate (max)(SPS): 50M; SFDR(dB): 70; SINAD(dB): 64; SNR(dB): 65; SubFamily: High Speed ADC (>10MSPS); DatasheetVersion: SBAS169B; PackageVersion: 4147702/C, 08/2003; PackageReference: PAP64-5900X5900TP; PackageDescription: 64-Pin PowerPAD(TM) Plastic Quad Flatpack, Body 10 x 10 mm, Pitch 0.5 mm; Supplier 1: Digi-Key; Supplier Part Number 1: THS1030CPWG4-ND; Supplier 2: Mouser; Supplier Part Number 2: 595-THS1030CPWG4; Eco-Plan: Green (RoHS & no Sb/Br); INL(Max)(+/-LSB): 5; Mounting Technology: Surface Mount; Code_JEDEC: MS-026; ComponentLink1Description: Manufacturer URL; ComponentLink1URL: http://www.ti.com/; ComponentLink2Description: Datasheet; ComponentLink2URL: http://www.ti.com/general/docs/lit/getliterature.tsp?genericPartNumber=ADS2807&fileType=pdf; ComponentLink3Description: Package Specification; ComponentLink3URL: http://www.ti.com/lit/ml/mpqf071b/mpqf071b.pdf
footprint TI-PAP64-5900X5900TP_N (QFP, 64-Leads, Body 10x10mm, Pitch 0.5mm, Thermal Pad 6.5x6.5mm, IPC Medium Density)
footprint TI-PAP64-5900X5900TP_L (QFP, 64-Leads, Body 10x10mm, Pitch 0.5mm, Thermal Pad 6.5x6.5mm, IPC High Density)
footprint TI-PAP64-5900X5900TP_M (QFP, 64-Leads, Body 10x10mm, Pitch 0.5mm, Thermal Pad 6.5x6.5mm, IPC Low Density)
part A pins: 6 ~{OE}B (in) "Output Enable, Channel B", 9 OVRB (out) "Over-Range Indicator, Channel B", 10 B12 (LSB) (hiz) "Data Bit 12 (D0), Channel B", 11 B11 (hiz) "Data Bit 11 (D1), Channel B", 12 B10 (hiz) "Data Bit 10 (D2), Channel B", 13 B9 (hiz) "Data Bit 9 (D3), Channel B", 14 B8 (hiz) "Data Bit 8 (D4), Channel B", 15 B7 (hiz) "Data Bit 7 (D5), Channel B", 16 B6 (hiz) "Data Bit 6 (D6), Channel B", 17 B5 (hiz) "Data Bit 5 (D7), Channel B", 18 B4 (hiz) "Data Bit 4 (D8), Channel B", 19 B3 (hiz) "Data Bit 3 (D9), Channel B", 20 B2 (hiz) "Data Bit 2 (D10), Channel B", 21 B1 (MSB) (hiz) "Data Bit 1 (D11), Channel B", 22 DVB (out) "Data Valid, Channel B", 24 CLK (in) "Clock", 26 DVA (out) "Data Valid, Channel A", 27 A12 (LSB) (hiz) "Data Bit 12 (D0), Channel A", 28 A11 (hiz) "Data Bit 11 (D1), Channel A", 29 A10 (hiz) "Data Bit 10 (D2), Channel A", 30 A9 (hiz) "Data Bit 9 (D3), Channel A", 31 A8 (hiz) "Data Bit 8 (D4), Channel A", 32 A7 (hiz) "Data Bit 7 (D5), Channel A", 33 A6 (hiz) "Data Bit 6 (D6), Channel A", 34 A5 (hiz) "Data Bit 5 (D7), Channel A", 35 A4 (hiz) "Data Bit 4 (D8), Channel A", 36 A3 (hiz) "Data Bit 3 (D9), Channel A", 37 A2 (hiz) "Data Bit 2 (D10), Channel A", 38 A1 (MSB) (hiz) "Data Bit 1 (D11), Channel A", 39 OVRA (out) "Over-Range Indicator, Channel A", 42 ~{OE}A (in) "Output Enable, Channel A", 45 SEL (in) "Input Range Select: HIGH = 3V, LOW = 2V", 50 INA (in) "Analog Input, Channel A", 51 ~{IN}A (in) "Complementary Analog Input, Channel A", 52 CMA (out) "Common-Mode, Channel A", 53 REFTA "Top Reference/Bypass, Channel A", 54 REFBA "Bottom Reference/Bypass, Channel A", 56 ~{INT}/EXT (in) "Reference Select: HIGH = External,LOW = Internal 50kO Pull-Up Resistor", 59 REFBB "Bottom Reference/Bypass, Channel B", 60 REFTB "Top Reference/Bypass, Channel B", 61 CMB (out) "Common-Mode, Channel B", 62 ~{IN}B (in) "Complementary Analog Input, Channel B", 63 INB (in) "Analog Input, Channel B"
part B pins: 1 GND (power) "Ground", 2 GND (power) "Ground", 3 VS+ (power) "+5V Supply", 4 GND (power) "Ground", 5 VS+ (power) "+5V Supply", 7 GND (power), 8 VDRVB (power) "Logic Driver Supply Voltage, Channel B", 23 GND (power) "Ground", 25 GND (power) "Ground", 40 VDRVA (power) "Logic Driver Supply Voltage, Channel A", 41 GND (power) "Ground", 43 VS+ (power) "+5V Supply", 44 GND (power) "Ground", 46 VS+ (power) "+5V Supply", 47 GND (power) "Ground", 48 GND (power) "Ground", 49 GND (power) "Ground", 55 GND (power) "Ground", 57 VS+ (power) "+5V Supply", 58 GND (power) "Ground", 64 GND (power) "Ground", 65 EP

## ADS2807Y/250
designator U?
12-Bit, 50 MSPS Dual ADC, Int / Ext Reference, Program Input Range with Out of Range Flag, -40 to 85 degC, 64-pin QFP (PAP64), Green (RoHS & no Sb/Br); Manufacturer: Texas Instruments; PartNumber: ADS2807Y/250; # Input Channels: 2; Analog Voltage AV/DD(Max)(V): 5.25; Analog Voltage AV/DD(Min)(V): 4.75; Architecture: Pipeline; Digital Supply(Max)(V): 5; Digital Supply(Min)(V): 3; Interface: Parallel CMOS; Resolution(Bits): 12; Sample Rate (max)(SPS): 50M; SFDR(dB): 70; SINAD(dB): 64; SNR(dB): 65; SubFamily: High Speed ADC (>10MSPS); DatasheetVersion: SBAS169B; PackageVersion: 4147702/C, 08/2003; PackageReference: PAP64-5900X5900TP; PackageDescription: 64-Pin PowerPAD(TM) Plastic Quad Flatpack, Body 10 x 10 mm, Pitch 0.5 mm; Supplier 1: Digi-Key; Supplier Part Number 1: THS1030CPWR-ND; Supplier 2: Mouser; Supplier Part Number 2: 595-THS1030CPWR; Eco-Plan: Green (RoHS & no Sb/Br); INL(Max)(+/-LSB): 5; Mounting Technology: Surface Mount; Code_JEDEC: MS-026; ComponentLink1Description: Manufacturer URL; ComponentLink1URL: http://www.ti.com/; ComponentLink2Description: Datasheet; ComponentLink2URL: http://www.ti.com/general/docs/lit/getliterature.tsp?genericPartNumber=ADS2807&fileType=pdf; ComponentLink3Description: Package Specification; ComponentLink3URL: http://www.ti.com/lit/ml/mpqf071b/mpqf071b.pdf
footprint TI-PAP64-5900X5900TP_N (QFP, 64-Leads, Body 10x10mm, Pitch 0.5mm, Thermal Pad 6.5x6.5mm, IPC Medium Density)
footprint TI-PAP64-5900X5900TP_L (QFP, 64-Leads, Body 10x10mm, Pitch 0.5mm, Thermal Pad 6.5x6.5mm, IPC High Density)
footprint TI-PAP64-5900X5900TP_M (QFP, 64-Leads, Body 10x10mm, Pitch 0.5mm, Thermal Pad 6.5x6.5mm, IPC Low Density)
part A pins: 6 ~{OE}B (in) "Output Enable, Channel B", 9 OVRB (out) "Over-Range Indicator, Channel B", 10 B12 (LSB) (hiz) "Data Bit 12 (D0), Channel B", 11 B11 (hiz) "Data Bit 11 (D1), Channel B", 12 B10 (hiz) "Data Bit 10 (D2), Channel B", 13 B9 (hiz) "Data Bit 9 (D3), Channel B", 14 B8 (hiz) "Data Bit 8 (D4), Channel B", 15 B7 (hiz) "Data Bit 7 (D5), Channel B", 16 B6 (hiz) "Data Bit 6 (D6), Channel B", 17 B5 (hiz) "Data Bit 5 (D7), Channel B", 18 B4 (hiz) "Data Bit 4 (D8), Channel B", 19 B3 (hiz) "Data Bit 3 (D9), Channel B", 20 B2 (hiz) "Data Bit 2 (D10), Channel B", 21 B1 (MSB) (hiz) "Data Bit 1 (D11), Channel B", 22 DVB (out) "Data Valid, Channel B", 24 CLK (in) "Clock", 26 DVA (out) "Data Valid, Channel A", 27 A12 (LSB) (hiz) "Data Bit 12 (D0), Channel A", 28 A11 (hiz) "Data Bit 11 (D1), Channel A", 29 A10 (hiz) "Data Bit 10 (D2), Channel A", 30 A9 (hiz) "Data Bit 9 (D3), Channel A", 31 A8 (hiz) "Data Bit 8 (D4), Channel A", 32 A7 (hiz) "Data Bit 7 (D5), Channel A", 33 A6 (hiz) "Data Bit 6 (D6), Channel A", 34 A5 (hiz) "Data Bit 5 (D7), Channel A", 35 A4 (hiz) "Data Bit 4 (D8), Channel A", 36 A3 (hiz) "Data Bit 3 (D9), Channel A", 37 A2 (hiz) "Data Bit 2 (D10), Channel A", 38 A1 (MSB) (hiz) "Data Bit 1 (D11), Channel A", 39 OVRA (out) "Over-Range Indicator, Channel A", 42 ~{OE}A (in) "Output Enable, Channel A", 45 SEL (in) "Input Range Select: HIGH = 3V, LOW = 2V", 50 INA (in) "Analog Input, Channel A", 51 ~{IN}A (in) "Complementary Analog Input, Channel A", 52 CMA (out) "Common-Mode, Channel A", 53 REFTA "Top Reference/Bypass, Channel A", 54 REFBA "Bottom Reference/Bypass, Channel A", 56 ~{INT}/EXT (in) "Reference Select: HIGH = External,LOW = Internal 50kO Pull-Up Resistor", 59 REFBB "Bottom Reference/Bypass, Channel B", 60 REFTB "Top Reference/Bypass, Channel B", 61 CMB (out) "Common-Mode, Channel B", 62 ~{IN}B (in) "Complementary Analog Input, Channel B", 63 INB (in) "Analog Input, Channel B"
part B pins: 1 GND (power) "Ground", 2 GND (power) "Ground", 3 VS+ (power) "+5V Supply", 4 GND (power) "Ground", 5 VS+ (power) "+5V Supply", 7 GND (power), 8 VDRVB (power) "Logic Driver Supply Voltage, Channel B", 23 GND (power) "Ground", 25 GND (power) "Ground", 40 VDRVA (power) "Logic Driver Supply Voltage, Channel A", 41 GND (power) "Ground", 43 VS+ (power) "+5V Supply", 44 GND (power) "Ground", 46 VS+ (power) "+5V Supply", 47 GND (power) "Ground", 48 GND (power) "Ground", 49 GND (power) "Ground", 55 GND (power) "Ground", 57 VS+ (power) "+5V Supply", 58 GND (power) "Ground", 64 GND (power) "Ground", 65 EP

## ADS2807Y/250G4
designator U?
12-Bit, 50 MSPS Dual ADC, Int / Ext Reference, Program Input Range with Out of Range Flag, -40 to 85 degC, 64-pin QFP (PAP64), Green (RoHS & no Sb/Br); Manufacturer: Texas Instruments; PartNumber: ADS2807Y/250G4; # Input Channels: 2; Analog Voltage AV/DD(Max)(V): 5.25; Analog Voltage AV/DD(Min)(V): 4.75; Architecture: Pipeline; Digital Supply(Max)(V): 5; Digital Supply(Min)(V): 3; Interface: Parallel CMOS; Resolution(Bits): 12; Sample Rate (max)(SPS): 50M; SFDR(dB): 70; SINAD(dB): 64; SNR(dB): 65; SubFamily: High Speed ADC (>10MSPS); DatasheetVersion: SBAS169B; PackageVersion: 4147702/C, 08/2003; PackageReference: PAP64-5900X5900TP; PackageDescription: 64-Pin PowerPAD(TM) Plastic Quad Flatpack, Body 10 x 10 mm, Pitch 0.5 mm; Supplier 1: Digi-Key; Supplier Part Number 1: THS1030CPWRG4-ND; Supplier 2: Mouser; Supplier Part Number 2: 595-THS1030CPWRG4; Eco-Plan: Green (RoHS & no Sb/Br); INL(Max)(+/-LSB): 5; Mounting Technology: Surface Mount; Code_JEDEC: MS-026; ComponentLink1Description: Manufacturer URL; ComponentLink1URL: http://www.ti.com/; ComponentLink2Description: Datasheet; ComponentLink2URL: http://www.ti.com/general/docs/lit/getliterature.tsp?genericPartNumber=ADS2807&fileType=pdf; ComponentLink3Description: Package Specification; ComponentLink3URL: http://www.ti.com/lit/ml/mpqf071b/mpqf071b.pdf
footprint TI-PAP64-5900X5900TP_N (QFP, 64-Leads, Body 10x10mm, Pitch 0.5mm, Thermal Pad 6.5x6.5mm, IPC Medium Density)
footprint TI-PAP64-5900X5900TP_L (QFP, 64-Leads, Body 10x10mm, Pitch 0.5mm, Thermal Pad 6.5x6.5mm, IPC High Density)
footprint TI-PAP64-5900X5900TP_M (QFP, 64-Leads, Body 10x10mm, Pitch 0.5mm, Thermal Pad 6.5x6.5mm, IPC Low Density)
part A pins: 6 ~{OE}B (in) "Output Enable, Channel B", 9 OVRB (out) "Over-Range Indicator, Channel B", 10 B12 (LSB) (hiz) "Data Bit 12 (D0), Channel B", 11 B11 (hiz) "Data Bit 11 (D1), Channel B", 12 B10 (hiz) "Data Bit 10 (D2), Channel B", 13 B9 (hiz) "Data Bit 9 (D3), Channel B", 14 B8 (hiz) "Data Bit 8 (D4), Channel B", 15 B7 (hiz) "Data Bit 7 (D5), Channel B", 16 B6 (hiz) "Data Bit 6 (D6), Channel B", 17 B5 (hiz) "Data Bit 5 (D7), Channel B", 18 B4 (hiz) "Data Bit 4 (D8), Channel B", 19 B3 (hiz) "Data Bit 3 (D9), Channel B", 20 B2 (hiz) "Data Bit 2 (D10), Channel B", 21 B1 (MSB) (hiz) "Data Bit 1 (D11), Channel B", 22 DVB (out) "Data Valid, Channel B", 24 CLK (in) "Clock", 26 DVA (out) "Data Valid, Channel A", 27 A12 (LSB) (hiz) "Data Bit 12 (D0), Channel A", 28 A11 (hiz) "Data Bit 11 (D1), Channel A", 29 A10 (hiz) "Data Bit 10 (D2), Channel A", 30 A9 (hiz) "Data Bit 9 (D3), Channel A", 31 A8 (hiz) "Data Bit 8 (D4), Channel A", 32 A7 (hiz) "Data Bit 7 (D5), Channel A", 33 A6 (hiz) "Data Bit 6 (D6), Channel A", 34 A5 (hiz) "Data Bit 5 (D7), Channel A", 35 A4 (hiz) "Data Bit 4 (D8), Channel A", 36 A3 (hiz) "Data Bit 3 (D9), Channel A", 37 A2 (hiz) "Data Bit 2 (D10), Channel A", 38 A1 (MSB) (hiz) "Data Bit 1 (D11), Channel A", 39 OVRA (out) "Over-Range Indicator, Channel A", 42 ~{OE}A (in) "Output Enable, Channel A", 45 SEL (in) "Input Range Select: HIGH = 3V, LOW = 2V", 50 INA (in) "Analog Input, Channel A", 51 ~{IN}A (in) "Complementary Analog Input, Channel A", 52 CMA (out) "Common-Mode, Channel A", 53 REFTA "Top Reference/Bypass, Channel A", 54 REFBA "Bottom Reference/Bypass, Channel A", 56 ~{INT}/EXT (in) "Reference Select: HIGH = External,LOW = Internal 50kO Pull-Up Resistor", 59 REFBB "Bottom Reference/Bypass, Channel B", 60 REFTB "Top Reference/Bypass, Channel B", 61 CMB (out) "Common-Mode, Channel B", 62 ~{IN}B (in) "Complementary Analog Input, Channel B", 63 INB (in) "Analog Input, Channel B"
part B pins: 1 GND (power) "Ground", 2 GND (power) "Ground", 3 VS+ (power) "+5V Supply", 4 GND (power) "Ground", 5 VS+ (power) "+5V Supply", 7 GND (power), 8 VDRVB (power) "Logic Driver Supply Voltage, Channel B", 23 GND (power) "Ground", 25 GND (power) "Ground", 40 VDRVA (power) "Logic Driver Supply Voltage, Channel A", 41 GND (power) "Ground", 43 VS+ (power) "+5V Supply", 44 GND (power) "Ground", 46 VS+ (power) "+5V Supply", 47 GND (power) "Ground", 48 GND (power) "Ground", 49 GND (power) "Ground", 55 GND (power) "Ground", 57 VS+ (power) "+5V Supply", 58 GND (power) "Ground", 64 GND (power) "Ground", 65 EP

## ADS4128IRGZ25
designator U?
12-Bit, 200 MSPS, Ultralow-Power ADC, -40 to 85 degC, 48-pin QFN (RGZ48), Green (RoHS & no Sb/Br); Manufacturer: Texas Instruments; PartNumber: ADS4128IRGZ25; # Input Channels: 1; Analog Voltage AV/DD(Max)(V): 1.9; Analog Voltage AV/DD(Min)(V): 1.7; Architecture: Pipeline; ENOB(Bits): 11.2; INL(Max)(+/-LSB): 5; Interface: Parallel CMOS, Parallel LVDS; Resolution(Bits): 12; Sample Rate(max)(SPS): 200M; SFDR(dB): 85; SINAD(dB): 68.8; SNR(dB): 69; SubFamily: High Speed ADC (>10MSPS); DatasheetVersion: SBAS578; PackageVersion: 4204101/F, 06/2011; PackageReference: RGZ48-5600X5600TP; PackageDescription: 48-Lead, Plastic Flat Pack, Body Size 7 x 7 mm, Pitch 0.5 mm; Supplier 1: Digi-Key; Supplier Part Number 1: 296-2827-5-ND; Supplier 2: Mouser; Supplier Part Number 2: 595-THS1030IPW; Digital Supply(Max)(V): 1.9; Digital Supply(Min)(V): 1.7; Eco-Plan: Green (RoHS & no Sb/Br); Mounting Technology: Surface Mount; Code_JEDEC: MO-220; ComponentLink1Description: Manufacturer URL; ComponentLink1URL: http://www.ti.com/; ComponentLink2Description: Datasheet; ComponentLink2URL: http://www.ti.com/lit/ds/symlink/ads4128.pdf; ComponentLink3Description: Package Specification; ComponentLink3URL: http://www.ti.com/lit/ml/mpqf123e/mpqf123e.pdf
footprint TI-RGZ48-5600X5600TP_V (QFN, 48-Leads, Body 7x7mm, Pitch 0.5mm, Thermal Pad 5.6x5.6mm)
part A pins: 3 OVR_SDOUT (out) "This pin functions as an out-of-range indicator after reset when register bit READOUT = 0, and functions as a serial register readout pin when READOUT = 1.", 4 CLKOUTM/UNUSED (hiz), 5 CLKOUTP/CLKOUT (hiz), 6 DFS (in) "Data format select input. This pin sets the DATA FORMAT (twos complement or offset binary) and the LVDS and CMOS output interface type.", 7 OE (in) "Output buffer enable input, active high; this pin has an internal 180-kohm pull-up resistor to DRVDD.", 10 CLKP (in) "Differential clock input, positive", 11 CLKM (in) "Differential clock input, negative", 13 VCM (out) "Outputs the common-mode voltage (0.95 V) that can be used externally to bias the analog input pins.", 15 INP (in) "Differential analog input, positive", 16 INM (in) "Differential analog input, negative", 23 RESERVED "Digital control pin, reserved for future use", 27 SEN (in) "This pin functions as a serial interface enable input when RESET is low. When RESET is high, SEN has no function and should be tied to AVDD. This pin has an internal 180-kohm pull-up resistor to AVDD.", 28 SDATA (in) "This pin functions as a serial interface data input when RESET is low. When RESET is high, SDATA functions as a STANDBY control pin (see Table 10). This pin has an internal 180-kohm pull-down resistor.", 29 SCLK (in) "This pin functions as a serial interface clock input when RESET is low. When RESET is high, SCLK has no function and should be tied to ground. This pin has an internal 180-kohm pull-down resistor.", 30 RESET (in) "Serial interface RESET input. When using the serial interface mode, the internal registers must initialize through hardware RESET by applying a high pulse on this pin or by using the software reset option; refer to the (See Datasheet)", 37 D0_D1_M/D0 (hiz), 38 D0_D1_P/D1 (hiz), 39 D2_D3_M/D2 (hiz), 40 D2_D3_P/D3 (hiz), 41 D4_D5_M/D4 (hiz), 42 D4_D5_P/D5 (hiz), 43 D6_D7_M/D6 (hiz), 44 D6_D7_P/D7 (hiz), 45 D8_D9_M/D8 (hiz), 46 D8_D9_P/D9 (hiz), 47 D10_D11_M/D10 (hiz), 48 D10_D11_P/D11 (hiz)
part B pins: 1 DRGND (power) "Digital and output buffer ground", 2 DRVDD (power) "1.8-V digital and output buffer supply", 8 AVDD (power) "1.8-V analog power supply", 9 AGND (power) "Analog ground", 12 AGND (power) "Analog ground", 14 AGND (power) "Analog ground", 17 AGND (power) "Analog ground", 18 AVDD (power) "1.8-V analog power supply", 19 AGND (power) "Analog ground", 20 AVDD (power) "1.8-V analog power supply", 22 AVDD (power) "1.8-V analog power supply", 24 AVDD (power) "1.8-V analog power supply", 25 AGND (power) "Analog ground", 26 AVDD (power) "1.8-V analog power supply", 35 DRVDD (power) "1.8-V digital and output buffer supply", 36 DRGND (power) "Digital and output buffer ground", 49 GND (power) "Digital and output buffer ground"
part C pins: 21 NC "Do not connect", 31 NC "Do not connect", 32 NC "Do not connect", 33 NC "Do not connect", 34 NC "Do not connect"